# Altium footprint library Molex 105310-1108 Limit Switch Connector.PcbLib: 1 footprints
Each footprint in its own frame and in the unit in brackets; x right, y up, seen from the top. Pads: shape width x height; smd on the part's side, far side on the other; paste and mask are expansions set on the pad; w line width, h text height; cw(c..) or ccw(c..) is an arc to the next point about the centre after c.
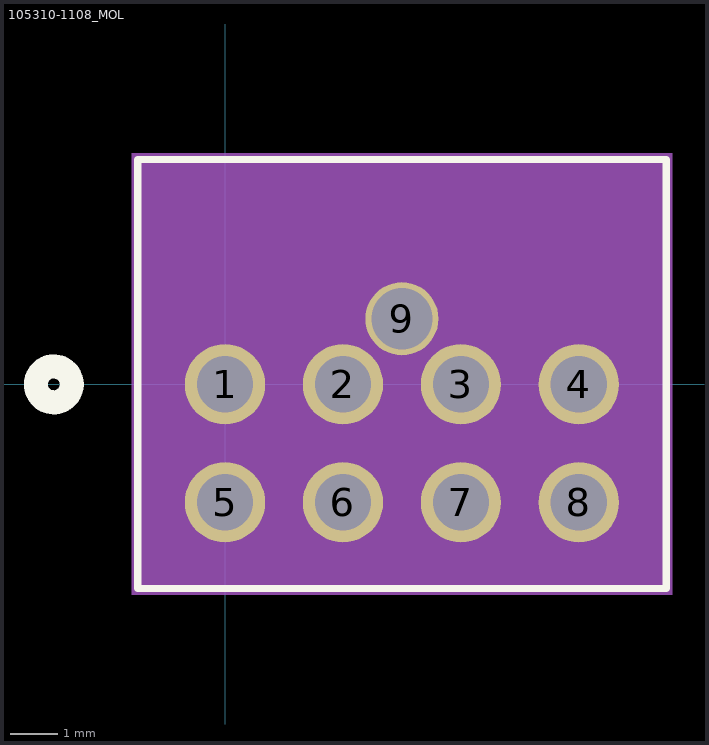
[diagram p0: the footprint, top view; thin cyan lines are the x and y axes]

## 105310-1108_MOL [mil]
pads (9):
  round 67 hole 47 mask+0: 1(0,0) 2(98.43,0) 3(196.85,0) 4(295.28,0) 5(0,-98.43) 6(98.43,-98.43) 7(196.85,-98.43) 8(295.28,-98.43)
  round 61 hole 51: 9(147.64,54.72)
Top Overlay:
  circle w20: c-142.86,0 r15
  lines w6: -72.86,-170.39 -72.86,187.65 368.14,187.65 368.14,-170.39 -72.86,-170.39
Bottom Overlay:
  circle w20: c-142.86,0 r15
Mechanical 13:
  circle w20: c0,75 r15
  lines w1: -67.86,-165.39 -67.86,182.65 363.14,182.65 363.14,-165.39 -67.86,-165.39
Mechanical 15:
  region: 373.14,192.65 -77.86,192.65 -77.86,-175.39 373.14,-175.39
3D body: height 10, standoff 0, extent 0,0 10,10